# Altium schematic symbol library TPS2117DRLR.SchLib: 1 symbol
Pins are listed as number, name and electrical type; pins without a type are passive.

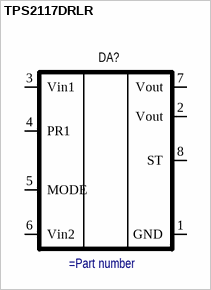
[diagram p0: symbol TPS2117DRLR]

## TPS2117DRLR
designator DA?
1.6-V to 5.5-V, 4-A Low IQ Power Mux With Manual and Priority Switchover
pins: 1 GND, 2 Vout, 3 Vin1, 4 PR1, 5 MODE, 6 Vin2, 7 Vout, 8 ST